# Altium schematic symbol library MCU_NXP_Kinetis.SchLib: 155 symbols (part 4 of 4)
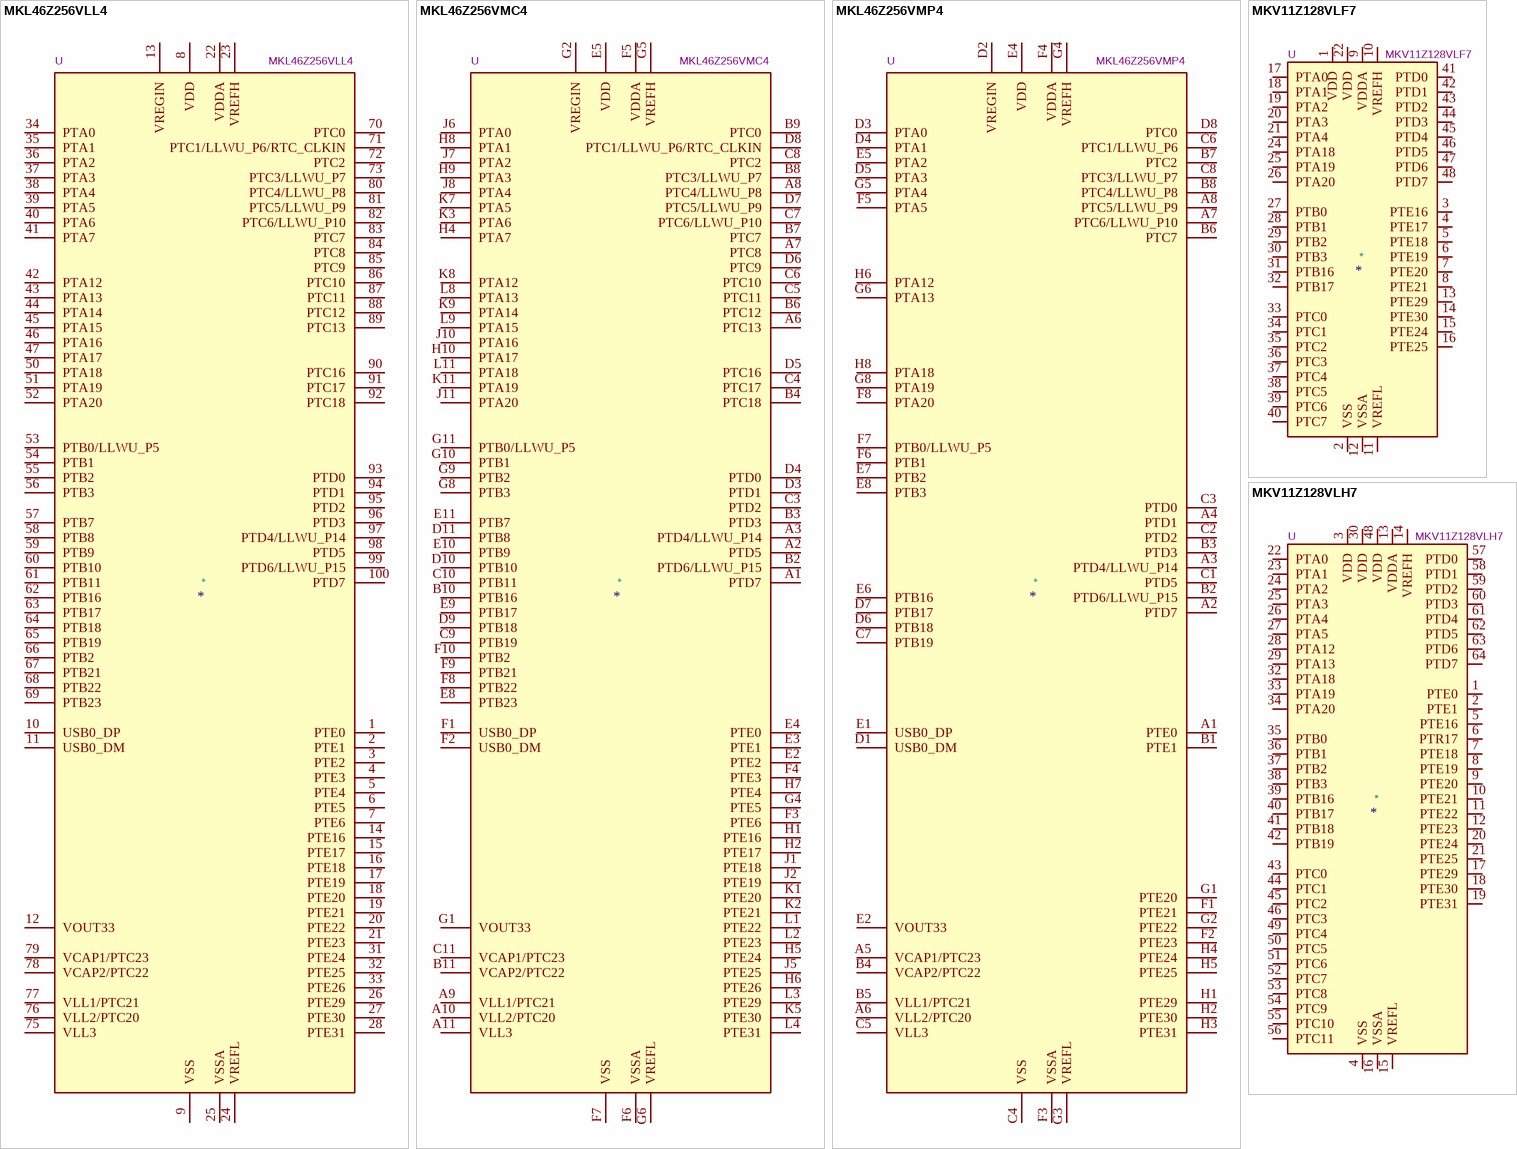
[diagram p33: symbols MKL46Z256VLL4 to MKV11Z128VLH7]

## MKV11Z128VLH7
designator *  value MKV11Z128VLH7  Reference: U
ki_keywords: Kinetis KV11 ARM Cortex M0+; ki_description: Kinetis KV11 series, 75-MHz/32-bit ARM Cortex-M0+, 128 kB flash, 16 kB RAM, Entry-Level, Real-time Motor Control, LQFP-64; ki_fp_filters: LQFP*10x10mm*P0.5mm*; Footprint: Package_QFP:LQFP-64_10x10mm_P0.5mm; Datasheet: https://www.nxp.com/docs/en/data-sheet/KV11P64M75.pdf
pins: 1 PTE0, 2 PTE1, 3 VDD, 4 VSS, 5 PTE16, 6 PTR17, 7 PTE18, 8 PTE19, 9 PTE20, 10 PTE21, 11 PTE22, 12 PTE23, 13 VDDA, 14 VREFH, 15 VREFL, 16 VSSA, 17 PTE29, 18 PTE30, 19 PTE31, 20 PTE24, 21 PTE25, 22 PTA0, 23 PTA1, 24 PTA2, 25 PTA3, 26 PTA4, 27 PTA5, 28 PTA12, 29 PTA13, 30 VDD, 31 VSS hidden, 32 PTA18, 33 PTA19, 34 PTA20, 35 PTB0, 36 PTB1, 37 PTB2, 38 PTB3, 39 PTB16, 40 PTB17, 41 PTB18, 42 PTB19, 43 PTC0, 44 PTC1, 45 PTC2, 46 PTC3, 47 VSS hidden, 48 VDD, 49 PTC4, 50 PTC5, 51 PTC6, 52 PTC7, 53 PTC8, 54 PTC9, 55 PTC10, 56 PTC11, 57 PTD0, 58 PTD1, 59 PTD2, 60 PTD3, 61 PTD4, 62 PTD5, 63 PTD6, 64 PTD7

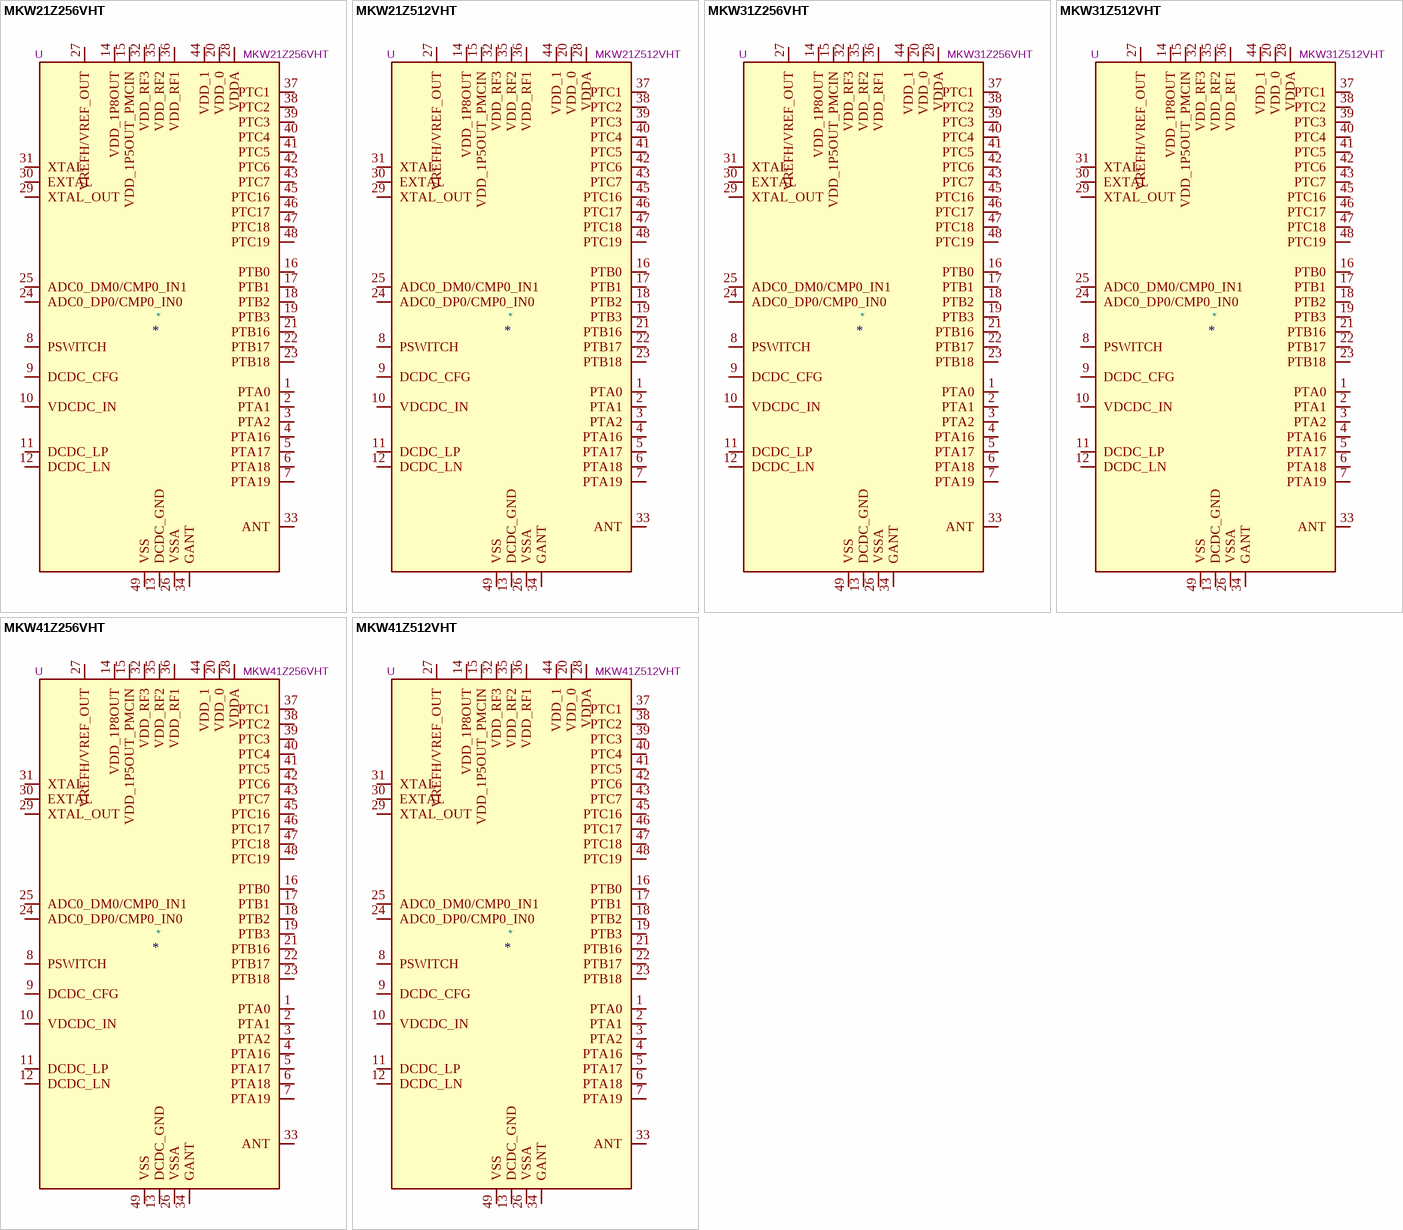
[diagram p30: symbols MKW21Z256VHT to MKW41Z512VHT]

## MKW21Z256VHT
designator *  value MKW21Z256VHT  Reference: U
ki_keywords: Kinetis KW21Z ARM Cortex M0+; ki_description: Kinetis KW41Z-2.4 GHz, Arm Cortex-M0+, 256kB Flash, 64kB SRAM, generic FSK, LQFN-48; ki_fp_filters: NXP*LQFN*1EP*7x7mm*P0.5mm*; Footprint: Package_DFN_QFN:NXP_LQFN-48-1EP_7x7mm_P0.5mm_EP3.5x3.5mm_16xMask0.45x0.45_ThermalVias; Datasheet: https://www.nxp.com/docs/en/data-sheet/MKW41Z512.pdf
pins: 1 PTA0, 2 PTA1, 3 PTA2, 4 PTA16, 5 PTA17, 6 PTA18, 7 PTA19, 8 PSWITCH, 9 DCDC_CFG, 10 VDCDC_IN, 11 DCDC_LP, 12 DCDC_LN, 13 DCDC_GND, 14 VDD_1P8OUT, 15 VDD_1P5OUT_PMCIN, 16 PTB0, 17 PTB1, 18 PTB2, 19 PTB3, 20 VDD_0, 21 PTB16, 22 PTB17, 23 PTB18, 24 ADC0_DP0/CMP0_IN0, 25 ADC0_DM0/CMP0_IN1, 26 VSSA, 27 VREFH/VREF_OUT, 28 VDDA, 29 XTAL_OUT, 30 EXTAL, 31 XTAL, 32 VDD_RF3, 33 ANT, 34 GANT, 35 VDD_RF2, 36 VDD_RF1, 37 PTC1, 38 PTC2, 39 PTC3, 40 PTC4, 41 PTC5, 42 PTC6, 43 PTC7, 44 VDD_1, 45 PTC16, 46 PTC17, 47 PTC18, 48 PTC19, 49 VSS

## MKW21Z512VHT
designator *  value MKW21Z512VHT  Reference: U
ki_keywords: Kinetis KW21Z ARM Cortex M0+; ki_description: Kinetis KW41Z-2.4 GHz, Arm Cortex-M0+, 512kB Flash, 128kB SRAM, generic FSK, LQFN-48; ki_fp_filters: NXP*LQFN*1EP*7x7mm*P0.5mm*; Footprint: Package_DFN_QFN:NXP_LQFN-48-1EP_7x7mm_P0.5mm_EP3.5x3.5mm_16xMask0.45x0.45_ThermalVias; Datasheet: https://www.nxp.com/docs/en/data-sheet/MKW41Z512.pdf
pins: 1 PTA0, 2 PTA1, 3 PTA2, 4 PTA16, 5 PTA17, 6 PTA18, 7 PTA19, 8 PSWITCH, 9 DCDC_CFG, 10 VDCDC_IN, 11 DCDC_LP, 12 DCDC_LN, 13 DCDC_GND, 14 VDD_1P8OUT, 15 VDD_1P5OUT_PMCIN, 16 PTB0, 17 PTB1, 18 PTB2, 19 PTB3, 20 VDD_0, 21 PTB16, 22 PTB17, 23 PTB18, 24 ADC0_DP0/CMP0_IN0, 25 ADC0_DM0/CMP0_IN1, 26 VSSA, 27 VREFH/VREF_OUT, 28 VDDA, 29 XTAL_OUT, 30 EXTAL, 31 XTAL, 32 VDD_RF3, 33 ANT, 34 GANT, 35 VDD_RF2, 36 VDD_RF1, 37 PTC1, 38 PTC2, 39 PTC3, 40 PTC4, 41 PTC5, 42 PTC6, 43 PTC7, 44 VDD_1, 45 PTC16, 46 PTC17, 47 PTC18, 48 PTC19, 49 VSS

## MKW31Z256VHT
designator *  value MKW31Z256VHT  Reference: U
ki_keywords: Kinetis KW31Z ARM Cortex M0+; ki_description: Kinetis KW31Z-2.4 GHz, Arm Cortex-M0+, 256kB Flash, 64kB SRAM, Dual Mode: Bluetooth LE and generic FSK, LQFN-48; ki_fp_filters: NXP*LQFN*1EP*7x7mm*P0.5mm*; Footprint: Package_DFN_QFN:NXP_LQFN-48-1EP_7x7mm_P0.5mm_EP3.5x3.5mm_16xMask0.45x0.45_ThermalVias; Datasheet: https://www.nxp.com/docs/en/data-sheet/MKW41Z512.pdf
pins: 1 PTA0, 2 PTA1, 3 PTA2, 4 PTA16, 5 PTA17, 6 PTA18, 7 PTA19, 8 PSWITCH, 9 DCDC_CFG, 10 VDCDC_IN, 11 DCDC_LP, 12 DCDC_LN, 13 DCDC_GND, 14 VDD_1P8OUT, 15 VDD_1P5OUT_PMCIN, 16 PTB0, 17 PTB1, 18 PTB2, 19 PTB3, 20 VDD_0, 21 PTB16, 22 PTB17, 23 PTB18, 24 ADC0_DP0/CMP0_IN0, 25 ADC0_DM0/CMP0_IN1, 26 VSSA, 27 VREFH/VREF_OUT, 28 VDDA, 29 XTAL_OUT, 30 EXTAL, 31 XTAL, 32 VDD_RF3, 33 ANT, 34 GANT, 35 VDD_RF2, 36 VDD_RF1, 37 PTC1, 38 PTC2, 39 PTC3, 40 PTC4, 41 PTC5, 42 PTC6, 43 PTC7, 44 VDD_1, 45 PTC16, 46 PTC17, 47 PTC18, 48 PTC19, 49 VSS

## MKW31Z512VHT
designator *  value MKW31Z512VHT  Reference: U
ki_keywords: Kinetis KW31Z ARM Cortex M0+; ki_description: Kinetis KW41Z-2.4 GHz, Arm Cortex-M0+, 512kB Flash, 128kB SRAM, Dual Mode: Bluetooth LE and generic FSK, LQFN-48; ki_fp_filters: NXP*LQFN*1EP*7x7mm*P0.5mm*; Footprint: Package_DFN_QFN:NXP_LQFN-48-1EP_7x7mm_P0.5mm_EP3.5x3.5mm_16xMask0.45x0.45_ThermalVias; Datasheet: https://www.nxp.com/docs/en/data-sheet/MKW41Z512.pdf
pins: 1 PTA0, 2 PTA1, 3 PTA2, 4 PTA16, 5 PTA17, 6 PTA18, 7 PTA19, 8 PSWITCH, 9 DCDC_CFG, 10 VDCDC_IN, 11 DCDC_LP, 12 DCDC_LN, 13 DCDC_GND, 14 VDD_1P8OUT, 15 VDD_1P5OUT_PMCIN, 16 PTB0, 17 PTB1, 18 PTB2, 19 PTB3, 20 VDD_0, 21 PTB16, 22 PTB17, 23 PTB18, 24 ADC0_DP0/CMP0_IN0, 25 ADC0_DM0/CMP0_IN1, 26 VSSA, 27 VREFH/VREF_OUT, 28 VDDA, 29 XTAL_OUT, 30 EXTAL, 31 XTAL, 32 VDD_RF3, 33 ANT, 34 GANT, 35 VDD_RF2, 36 VDD_RF1, 37 PTC1, 38 PTC2, 39 PTC3, 40 PTC4, 41 PTC5, 42 PTC6, 43 PTC7, 44 VDD_1, 45 PTC16, 46 PTC17, 47 PTC18, 48 PTC19, 49 VSS

## MKW41Z256VHT
designator *  value MKW41Z256VHT  Reference: U
ki_keywords: Kinetis KW41Z ARM Cortex M0+; ki_description: Kinetis KW41Z-2.4 GHz, Arm Cortex-M0+, 256kB Flash, 64kB SRAM, Multi Mode: Bluetooth LE and 802.15.4 Wireless Radio and generic FSK, LQFN-48; ki_fp_filters: NXP*LQFN*1EP*7x7mm*P0.5mm*; Footprint: Package_DFN_QFN:NXP_LQFN-48-1EP_7x7mm_P0.5mm_EP3.5x3.5mm_16xMask0.45x0.45_ThermalVias; Datasheet: https://www.nxp.com/docs/en/data-sheet/MKW41Z512.pdf
pins: 1 PTA0, 2 PTA1, 3 PTA2, 4 PTA16, 5 PTA17, 6 PTA18, 7 PTA19, 8 PSWITCH, 9 DCDC_CFG, 10 VDCDC_IN, 11 DCDC_LP, 12 DCDC_LN, 13 DCDC_GND, 14 VDD_1P8OUT, 15 VDD_1P5OUT_PMCIN, 16 PTB0, 17 PTB1, 18 PTB2, 19 PTB3, 20 VDD_0, 21 PTB16, 22 PTB17, 23 PTB18, 24 ADC0_DP0/CMP0_IN0, 25 ADC0_DM0/CMP0_IN1, 26 VSSA, 27 VREFH/VREF_OUT, 28 VDDA, 29 XTAL_OUT, 30 EXTAL, 31 XTAL, 32 VDD_RF3, 33 ANT, 34 GANT, 35 VDD_RF2, 36 VDD_RF1, 37 PTC1, 38 PTC2, 39 PTC3, 40 PTC4, 41 PTC5, 42 PTC6, 43 PTC7, 44 VDD_1, 45 PTC16, 46 PTC17, 47 PTC18, 48 PTC19, 49 VSS

## MKW41Z512VHT
designator *  value MKW41Z512VHT  Reference: U
ki_keywords: Kinetis KW41Z ARM Cortex M0+; ki_description: Kinetis KW41Z-2.4 GHz, Arm Cortex-M0+, 512kB Flash, 128kB SRAM, Multi Mode: Bluetooth LE and 802.15.4 Wireless Radio and generic FSK, LQFN-48; ki_fp_filters: NXP*LQFN*1EP*7x7mm*P0.5mm*; Footprint: Package_DFN_QFN:NXP_LQFN-48-1EP_7x7mm_P0.5mm_EP3.5x3.5mm_16xMask0.45x0.45_ThermalVias; Datasheet: https://www.nxp.com/docs/en/data-sheet/MKW41Z512.pdf
pins: 1 PTA0, 2 PTA1, 3 PTA2, 4 PTA16, 5 PTA17, 6 PTA18, 7 PTA19, 8 PSWITCH, 9 DCDC_CFG, 10 VDCDC_IN, 11 DCDC_LP, 12 DCDC_LN, 13 DCDC_GND, 14 VDD_1P8OUT, 15 VDD_1P5OUT_PMCIN, 16 PTB0, 17 PTB1, 18 PTB2, 19 PTB3, 20 VDD_0, 21 PTB16, 22 PTB17, 23 PTB18, 24 ADC0_DP0/CMP0_IN0, 25 ADC0_DM0/CMP0_IN1, 26 VSSA, 27 VREFH/VREF_OUT, 28 VDDA, 29 XTAL_OUT, 30 EXTAL, 31 XTAL, 32 VDD_RF3, 33 ANT, 34 GANT, 35 VDD_RF2, 36 VDD_RF1, 37 PTC1, 38 PTC2, 39 PTC3, 40 PTC4, 41 PTC5, 42 PTC6, 43 PTC7, 44 VDD_1, 45 PTC16, 46 PTC17, 47 PTC18, 48 PTC19, 49 VSS